# Altium footprint library PowerSO-20.PcbLib: 1 footprints
Each footprint in its own frame and in the unit in brackets; x right, y up, seen from the top. Pads: shape width x height; smd on the part's side, far side on the other; paste and mask are expansions set on the pad; w line width, h text height; cw(c..) or ccw(c..) is an arc to the next point about the centre after c.
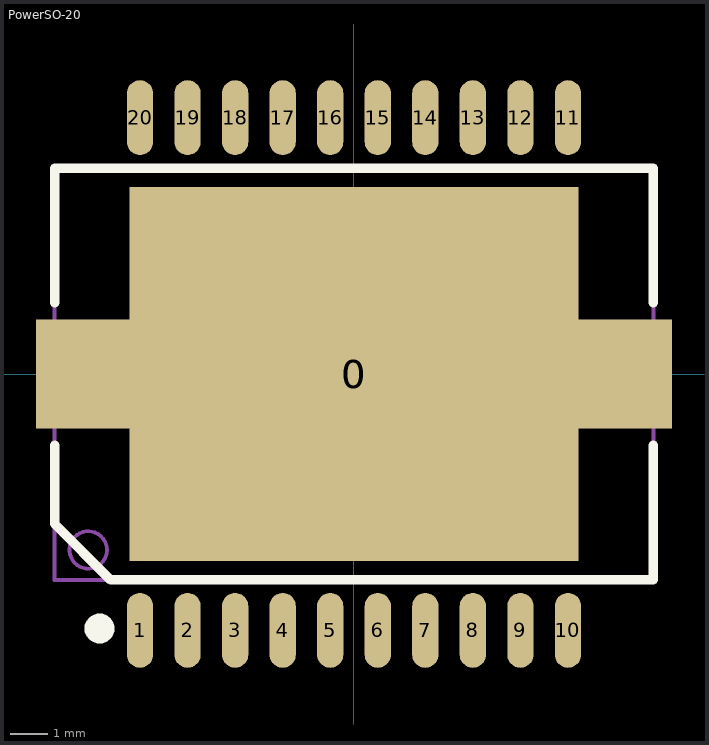
[diagram p0: the footprint, top view; thin cyan lines are the x and y axes]

## PowerSO-20 [mm]
pads (22):
  rect 17x2.9 smd: 0(0,0)
  rect 12x10 smd: 0(0,0)
  oval 0.7x2 smd: 1(-5.715,-6.85) 2(-4.445,-6.85) 3(-3.175,-6.85) 4(-1.905,-6.85) 5(-0.635,-6.85) 6(0.635,-6.85) 7(1.905,-6.85) 8(3.175,-6.85) 9(4.445,-6.85) 10(5.715,-6.85) 11(5.715,6.85) 12(4.445,6.85) 13(3.175,6.85) 14(1.905,6.85) 15(0.635,6.85) 16(-0.635,6.85) 17(-1.905,6.85) 18(-3.175,6.85) 19(-4.445,6.85) 20(-5.715,6.85)
Top Overlay:
  circle w0.4: c-6.8,-6.8 r0.2
  lines w0.254: -8,-1.9 -8,-4 -6.5,-5.5 8,-5.5 8,-1.9 ; -8,1.9 -8,5.5 8,5.5 8,1.9
Mechanical 13:
  circle w0.1: c-7.1,-4.7 r0.5
  lines w0.1: -8,-5.5 8,-5.5 8,5.5 -8,5.5 -8,-5.5